# EAGLE library part LM3481 (library custom_parts)
switching regulator controller data sheet at http://www.national.com/ds/LM/LM3481.pdf
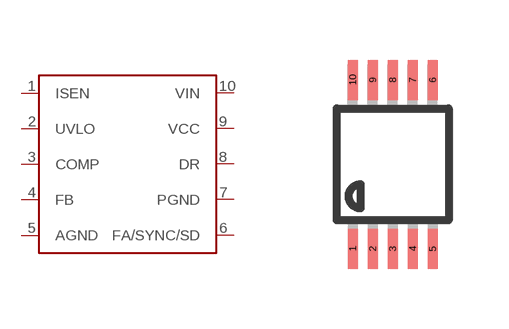
[diagram p5: symbol with the pads of MSOP10; footprint MSOP10]

Designator prefix -

## LM3481  [MSOP10]
1  ISEN
2  UVLO
3  COMP
4  FB
5  AGND
6  FA/SYNC/SD
7  PGND
8  DR
9  VCC
10  VIN

## Footprint MSOP10 (pad centres in mm)
10-Lead Mini Small Outline Package [MSOP] (RM-10) Source: http://www.analog.com/UploadedFiles/Data_Sheets/35641221898805SSM2167_b.pdf COMPLIANT TO JEDEC STANDARDS MO-187BA
smd 0.25 x 1: 1 -1,-2.113; 2 -0.5,-2.113; 3 0,-2.113; 4 0.5,-2.113; 5 1,-2.113; 6 1,2.113; 7 0.5,2.113; 8 0,2.113; 9 -0.5,2.113; 10 -1,2.113